# EAGLE library part DSP2A (library Panasonic Relay)
DS-P - 2 Form A - Single side stable Data sheet <https://www.panasonic-electric-works.com/eu/download.htm?id=55277> Parameters Max. switching voltage: 125 V DC, 250 V AC Max. switching current: 5 A Operational function: Single side stable, 1 coil latching, 2 coil latching Contact arrangement: 1 NO / 1 NO 1 NC / 2 NO Applications Office and industrial electronic devices Terminal devices of information processing equipment, such as printer, data recorder Office equipment (copier, facsimile) Measuring instruments NC machines, temperature controllers and programmable logic controllers Options Also available as 1 coil latching and 2 coil latching version.
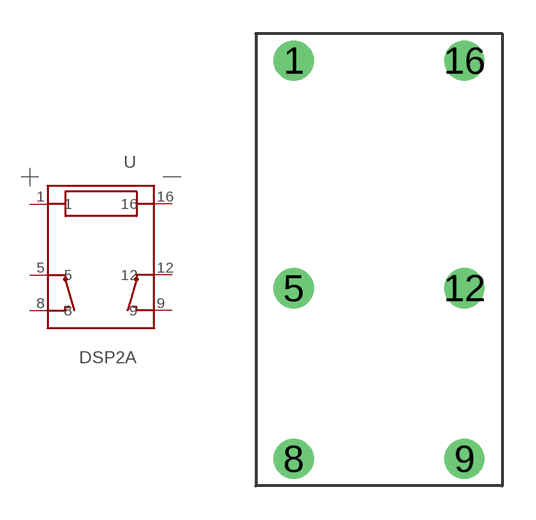
[diagram p29: symbol with the pads of DS-P_1_FORM_A_1_FORM_B/2_FORM_A_SSS; footprint DS-P_1_FORM_A_1_FORM_B/2_FORM_A_SSS]

Designator prefix -

## DSP2A-DC12V (U_COIL: 12V DC), DSP2A-DC24V (U_COIL: 24V DC), DSP2A-DC3V (U_COIL: 3V DC), DSP2A-DC5V (U_COIL: 5V DC), DSP2A-DC6V (U_COIL: 6V DC), DSP2A-DC9V (U_COIL: 9V DC)  [DS-P_1_FORM_A_1_FORM_B/2_FORM_A_SSS]
1  1
5  5
8  8
9  9
12  12
16  16

## Footprint DS-P_1_FORM_A_1_FORM_B/2_FORM_A_SSS (pad centres in mm)
drill 1.2: 1 -3.81,8.89; 5 -3.81,-1.27; 8 -3.81,-8.89; 9 3.81,-8.89; 12 3.81,-1.27; 16 3.81,8.89